# EAGLE library part XR22404CG28TR-F (library XR22404CG28TR-F)
IC USB 2.0 4-PORT HUB 28SSOP Source: Datasheet <https://www.maxlinear.com/document?id=22105>
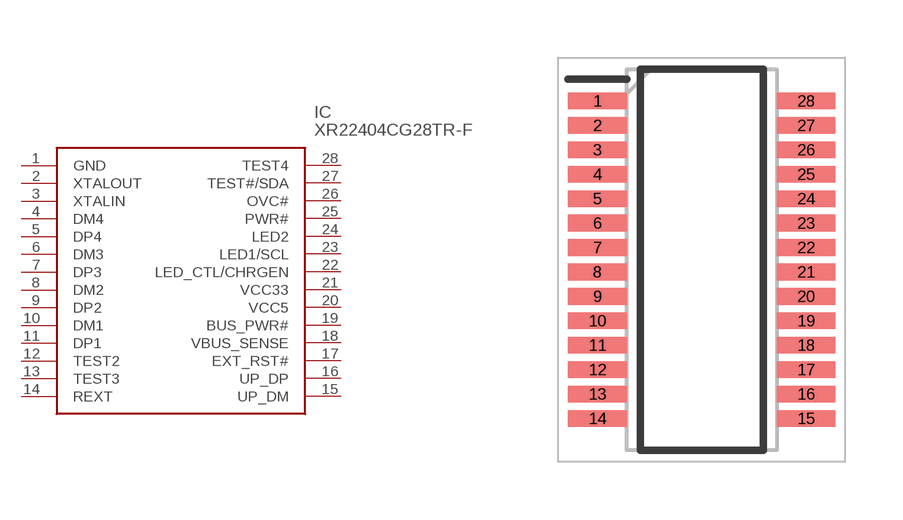
[diagram p0: symbol with the pads of SOP64P600X173-28N; footprint SOP64P600X173-28N]

Designator prefix IC

## XR22404CG28TR-F (Description: IC USB 2.0 4-PORT HUB 28SSOP; Height: 1.73mm; Manufacturer_Name: MaxLinear, Inc.; Manufacturer_Part_Number: XR22404CG28TR-F; Mouser_Part_Number: 701-XR22404CG28TR-F; Mouser_Price-Stock: https://www.mouser.co.uk/ProductDetail/MaxLinear/XR22404CG28TR-F?qs=pMEWzlIAYnay3yoEWcwQ0g%3D%3D)  [SOP64P600X173-28N]
1  GND  pwr
2  XTALOUT
3  XTALIN
4  DM4
5  DP4
6  DM3
7  DP3
8  DM2
9  DP2
10  DM1
11  DP1
12  TEST2
13  TEST3
14  REXT
15  UP_DM
16  UP_DP
17  EXT_RST#
18  VBUS_SENSE
19  BUS_PWR#
20  VCC5
21  VCC33
22  LED_CTL/CHRGEN
23  LED1/SCL
24  LED2
25  PWR#
26  OVC#
27  TEST#/SDA
28  TEST4

## Footprint SOP64P600X173-28N (pad centres in mm)
SSOP-28
smd 1.525 x 0.435: 1 -2.712,4.128; 2 -2.712,3.492; 3 -2.712,2.858; 4 -2.712,2.222; 5 -2.712,1.588; 6 -2.712,0.952; 7 -2.712,0.318; 8 -2.712,-0.318; 9 -2.712,-0.952; 10 -2.712,-1.588; 11 -2.712,-2.222; 12 -2.712,-2.858; 13 -2.712,-3.492; 14 -2.712,-4.128; 15 2.712,-4.128; 16 2.712,-3.492; 17 2.712,-2.858; 18 2.712,-2.222; 19 2.712,-1.588; 20 2.712,-0.952; 21 2.712,-0.318; 22 2.712,0.318; 23 2.712,0.952; 24 2.712,1.588; 25 2.712,2.222; 26 2.712,2.858; 27 2.712,3.492; 28 2.712,4.128